# Altium schematic symbol library OMD.SCHLIB: 82 symbols
Pins are listed as number, name and electrical type; pins without a type are passive.

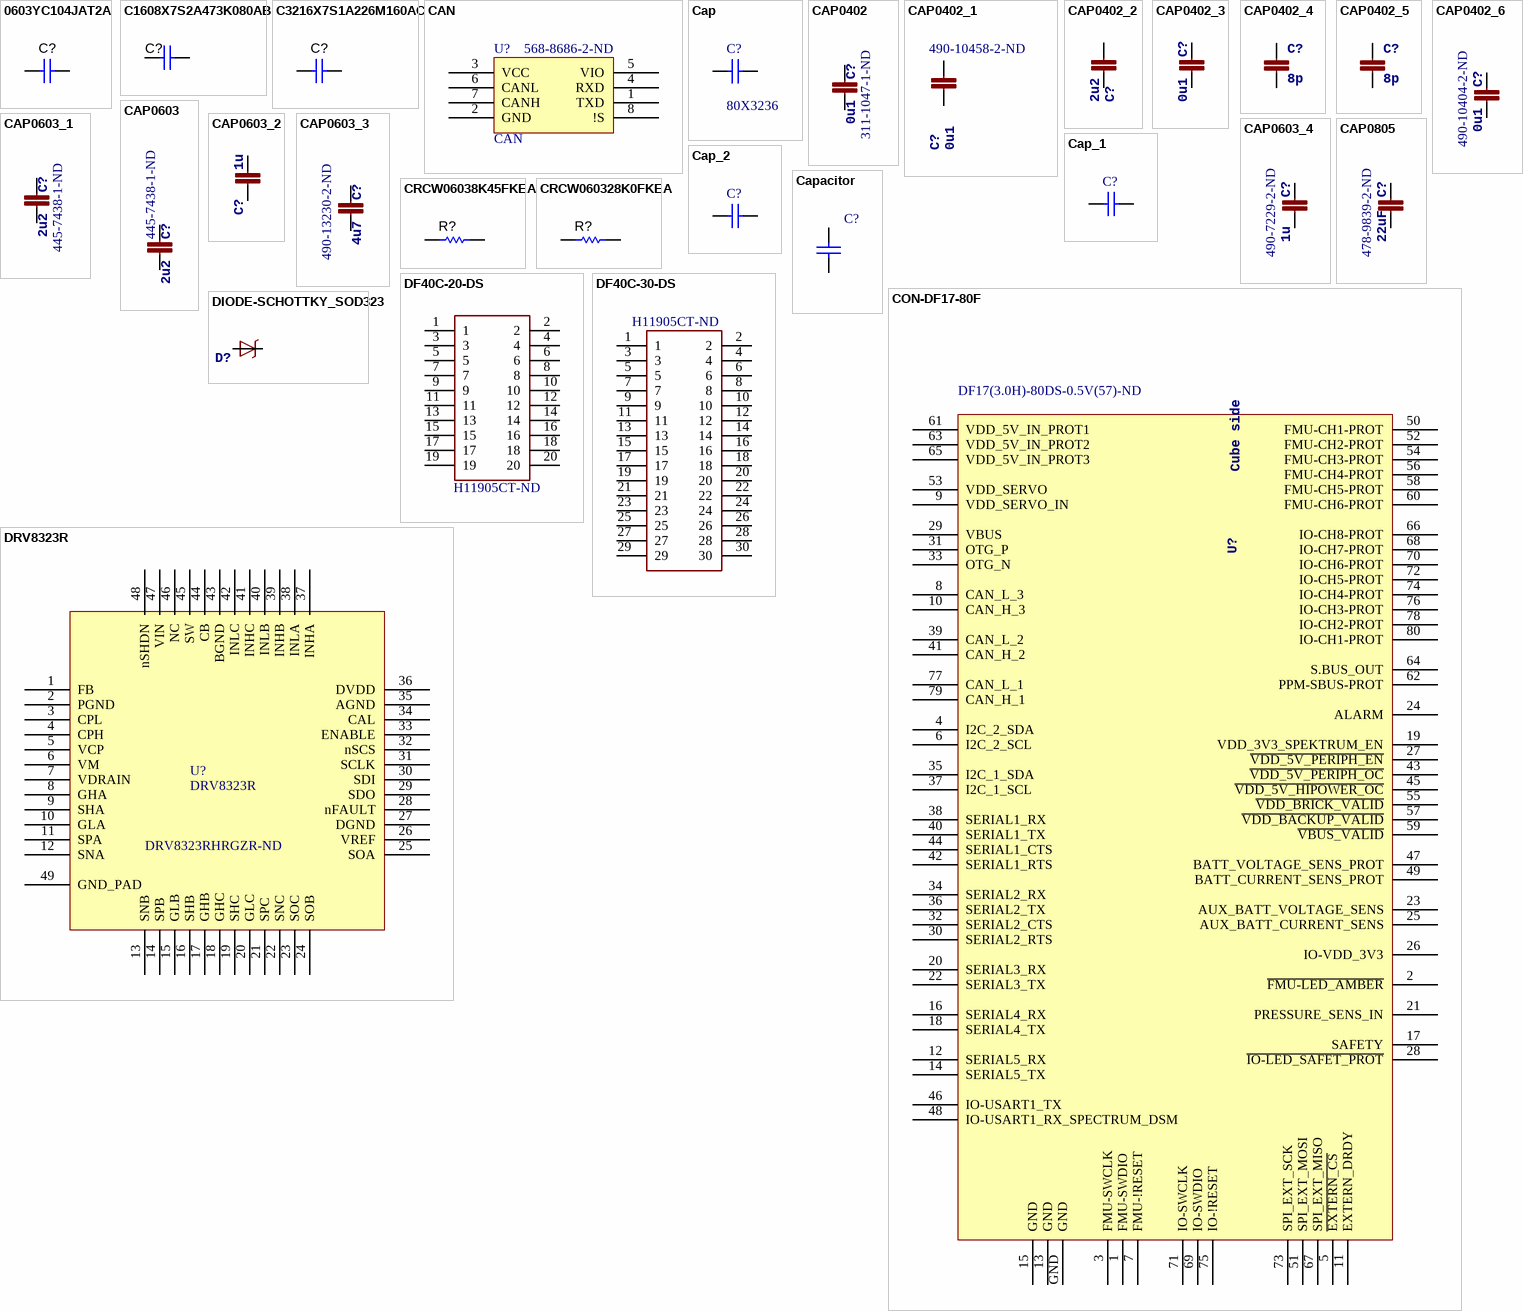
[diagram p0: symbols 0603YC104JAT2A to DRV8323R]

## 0603YC104JAT2A
designator C?
CAP, CERM, 0.1 µF, 16 V, +/- 5%, X7R, 0603; Supplier 1: Digi-Key; Supplier Part Number 1: 478-3726-1-ND
signal-integrity model Cap
simulation model Cap
footprint 0603
footprint 0603M
footprint 0603L
footprint 0603_HV
footprint 0603S
footprint 0603-CAP
pins: 1, 2

## C1608X7S2A473K080AB
designator C?
CAP, CERM, 0.047 µF, 100 V, +/- 10%, X7S, 0603; Supplier 1: Digi-Key; Supplier Part Number 1: 445-6032-1-ND
signal-integrity model Cap
simulation model Cap
footprint 0603
footprint 0603M
footprint 0603L
footprint 0603_HV
footprint 0603S
footprint 0603-CAP
pins: 1, 2

## C3216X7S1A226M160AC
designator C?
CAP, CERM, 22 µF, 10 V, +/- 20%, X7S, 1206; Supplier 1: Digi-Key; Supplier Part Number 1: 445-8035-1-ND
signal-integrity model Cap
simulation model Cap
footprint 1206_180
footprint 1206_180M
footprint 1206_180L (1206_180)
pins: 1, 2

## CAN
designator U?  Supplier Part Number 1: 568-8686-2-ND
Supplier 1: Digi-Key
footprint SON65P300X100_HS-9N (SON, 8-Leads, Body 3.00x3.00mm, Pitch 0.65mm, Thermal Pad 2.40x1.59mm, IPC Medium Density)
pins: 1 TXD, 2 GND, 3 VCC, 4 RXD, 5 VIO, 6 CANL, 7 CANH, 8 !S

## Cap
designator C?  Supplier Part Number 1: 80X3236  (hidden comment: Cap)
Capacitor; Supplier 1: Newark
simulation model CAP (Capacitor)
signal-integrity model Cap
footprint CAPC5750L (Chip Capacitor, Body 5.7x5.0mm, IPC High Density)
pins: 1, 2

## CAP0402
designator C?, comment 0u1  Supplier Part Number 1: 311-1047-1-ND
CAP CER 0.1UF 16V Y5V 0402; Supplier 1: Digi-Key
footprint 0402-CAP
pins: P$1 1, P$2 2

## CAP0402_1
designator C?, comment 0u1  Supplier Part Number 1: 490-10458-2-ND
CAP CER 0.1UF 16V Y5V 0402; Supplier 1: Digi-Key
footprint 0402-CAP
pins: P$1 1, P$2 2

## CAP0402_2
designator C?, comment 2u2
CAP CER 2u2uF 6V Y5V 0201; Supplier 1: Digi-Key; Supplier Part Number 1: 490-13224-1-ND
footprint 0402-CAP
footprint 0201-cap
pins: 1, 2

## CAP0402_3
designator C?, comment 0u1
CAP CER 0.1UF 6V Y5V 0201; Supplier 1: Digi-Key; Supplier Part Number 1: 490-10404-2-ND
footprint 0402-CAP
footprint 0201-cap
pins: 1, 2

## CAP0402_4
designator C?, comment 8p
CAP CER 8PF 50V NP0 0201; Supplier 1: Digi-Key; Supplier Part Number 1: 490-13331-1-ND
footprint 0402-CAP
footprint 0201-cap
pins: 1, 2

## CAP0402_5
designator C?, comment 8p
CAP CER 8PF 50V NP0 0201; Supplier 1: Digi-Key; Supplier Part Number 1: 490-13331-1-ND
footprint 0402-CAP
footprint 0201-cap
pins: 1, 2

## CAP0402_6
designator C?, comment 0u1  Supplier Part Number 1: 490-10404-2-ND
CAP CER 0.1UF 16V Y5V 0402; Supplier 1: Digi-Key
footprint 0402-CAP
footprint 0201-cap
pins: 1, 2

## CAP0603
designator C?, comment 2u2  Supplier Part Number 1: 445-7438-1-ND
CAP CER 2.2UF 16V 10% X6S 0603; Supplier 1: Digi-Key
footprint 0603-CAP
pins: 1, 2

## CAP0603_1
designator C?, comment 2u2  Supplier Part Number 1: 445-7438-1-ND
CAP CER 2.2UF 16V 10% X6S 0603; Supplier 1: Digi-Key
footprint 0603-CAP
pins: 1, 2

## CAP0603_2
designator C?, comment 1u
CAP CER 1UF 16V Y5V 0603; Supplier 1: Digi-Key; Supplier Part Number 1: 490-14464-2-ND
footprint 0603-CAP
footprint 0805-CAP
pins: 1, 2

## CAP0603_3
designator C?, comment 4u7  Supplier Part Number 1: 490-13230-2-ND
CAP CER 4.7UF 6.3V X5R 0201; Supplier 1: Digi-Key
footprint 0603-CAP
footprint 0201-cap
pins: 1, 2

## CAP0603_4
designator C?, comment 1u  Supplier Part Number 1: 490-7229-2-ND
CAP CER 1UF 6.3V X5R 0201; Supplier 1: Digi-Key
footprint 0603-CAP
footprint 0201-cap
pins: 1, 2

## CAP0805
designator C?, comment 22uF  Supplier Part Number 1: 478-9839-2-ND
CAP CER 22UF 6.3V X5R 0402; Supplier 1: Digi-Key
footprint 0805-CAP
footprint 0201-cap
pins: 1, 2

## Cap_1
designator C?, comment CAP CER 10000PF 50V X7R 0402  (value not drawn)
Supplier 1: Digi-Key; Supplier Part Number 1: 445-6893-1-ND
simulation model CAP (Capacitor)
signal-integrity model Cap
footprint CAPC1005L (Chip Capacitor, Body 1.0x0.5mm, IPC High Density)
pins: 1, 2

## Cap_2
designator C?, comment Cap  (value not drawn)
CAP CER 1UF 6.3V X5R 0402; Supplier 1: Digi-Key; Supplier Part Number 1: 587-3766-1-ND
simulation model CAP (Capacitor)
signal-integrity model Cap
footprint CAPC1005L (Chip Capacitor, Body 1.0x0.5mm, IPC High Density)
pins: 1, 2

## Capacitor
designator C?, comment GRM21BR60G107ME15L  (value not drawn)
Supplier 1: Digi-Key; Supplier Part Number 1: 490-10510-1-ND
footprint C0402
footprint C0603 (0603-CAP)
footprint C0805
footprint C1206
footprint C1812
footprint C1210
pins: 1, 2

## CON-DF17-80F
designator U?, comment Cube side  Supplier Part Number 1: DF17(3.0H)-80DS-0.5V(57)-ND
CONN RECEPT 80POS .5MM SMD W/FIT; Supplier 1: Digi-Key
footprint CON-DF17-80F
pins: 1 FMU-SWDIO, 2 ~{FMU-LED_AMBER}, 3 FMU-SWCLK, 4 I2C_2_SDA, 5 ~{EXTERN_CS}, 6 I2C_2_SCL, 7 FMU-!RESET, 8 CAN_L_3, 9 VDD_SERVO_IN, 10 CAN_H_3, 11 EXTERN_DRDY, 12 SERIAL5_RX, 13 GND, 14 SERIAL5_TX, 15 GND, 16 SERIAL4_RX, 17 SAFETY, 18 SERIAL4_TX, 19 VDD_3V3_SPEKTRUM_EN, 20 SERIAL3_RX, 21 PRESSURE_SENS_IN, 22 SERIAL3_TX, 23 AUX_BATT_VOLTAGE_SENS, 24 ALARM, 25 AUX_BATT_CURRENT_SENS, 26 IO-VDD_3V3, 27 ~{VDD_5V_PERIPH_EN}, 28 ~{IO-LED_SAFET_PROT}, 29 VBUS, 30 SERIAL2_RTS, 31 OTG_P, 32 SERIAL2_CTS, 33 OTG_N, 34 SERIAL2_RX, 35 I2C_1_SDA, 36 SERIAL2_TX, 37 I2C_1_SCL, 38 SERIAL1_RX, 39 CAN_L_2, 40 SERIAL1_TX, 41 CAN_H_2, 42 SERIAL1_RTS, 43 ~{VDD_5V_PERIPH_OC}, 44 SERIAL1_CTS, 45 ~{VDD_5V_HIPOWER_OC}, 46 IO-USART1_TX, 47 BATT_VOLTAGE_SENS_PROT, 48 IO-USART1_RX_SPECTRUM_DSM, 49 BATT_CURRENT_SENS_PROT, 50 FMU-CH1-PROT, 51 SPI_EXT_MOSI, 52 FMU-CH2-PROT, 53 VDD_SERVO, 54 FMU-CH3-PROT, 55 ~{VDD_BRICK_VALID}, 56 FMU-CH4-PROT, 57 ~{VDD_BACKUP_VALID}, 58 FMU-CH5-PROT, 59 ~{VBUS_VALID}, 60 FMU-CH6-PROT, 61 VDD_5V_IN_PROT1, 62 PPM-SBUS-PROT, 63 VDD_5V_IN_PROT2, 64 S.BUS_OUT, 65 VDD_5V_IN_PROT3, 66 IO-CH8-PROT, 67 SPI_EXT_MISO, 68 IO-CH7-PROT, 69 IO-SWDIO, 70 IO-CH6-PROT, 71 IO-SWCLK, 72 IO-CH5-PROT, 73 SPI_EXT_SCK, 74 IO-CH4-PROT, 75 IO-!RESET, 76 IO-CH3-PROT, 77 CAN_L_1, 78 IO-CH2-PROT, 79 CAN_H_1, 80 IO-CH1-PROT, GND

## CRCW06038K45FKEA
designator R?
RES, 8.45 k, 1%, 0.1 W, 0603; Supplier 1: Digi-Key; Supplier Part Number 1: 541-8.45KHCT-ND
signal-integrity model Resistor
simulation model Resistor
footprint 0603
footprint 0603M
footprint 0603L (0603 from SM-752 data)
footprint 0603_HV
footprint 0603S
pins: 1, 2

## CRCW060328K0FKEA
designator R?
RES, 28.0 k, 1%, 0.1 W, 0603; Supplier 1: Digi-Key; Supplier Part Number 1: 541-28.0KHCT-ND
signal-integrity model Resistor
simulation model Resistor
footprint 0603
footprint 0603M
footprint 0603L (0603 from SM-752 data)
footprint 0603_HV
footprint 0603S
pins: 1, 2

## DF40C-20-DS
designator U$?  Supplier Part Number 1: H11905CT-ND  (hidden comment: DF40C-20-DS)
CONN RCPT 20POS 0.4MM SMD GOLD; 3DR_PARTNO: ECM0517; PARTNO: DF40C(2.0)-20DS-0.4V(51); Supplier 1: Digi-Key
footprint DF-40C-20DS
pins: 1, 2, 3, 4, 5, 6, 7, 8, 9, 10, 11, 12, 13, 14, 15, 16, 17, 18, 19, 20

## DF40C-30-DS
designator U$?  Supplier Part Number 1: H11905CT-ND  (hidden comment: DF40C-30-DS)
CONN RCPT 30POS 0.4MM SMD GOLD; Supplier 1: Digi-Key
footprint DF-40C-30DS
pins: 1, 2, 3, 4, 5, 6, 7, 8, 9, 10, 11, 12, 13, 14, 15, 16, 17, 18, 19, 20, 21, 22, 23, 24, 25, 26, 27, 28, 29, 30

## DIODE-SCHOTTKY_SOD323
designator D?, comment Schottky barrier diode  (value not drawn)
DIODE SCHOTTKY 30V 0.03A SOD323; Supplier 1: Digi-Key; Supplier Part Number 1: RB751V40T1GOSCT-ND
footprint SOD323
pins: A, C

## DRV8323R
designator U?  Supplier Part Number 1: DRV8323RHRGZR-ND
Supplier 1: Digi-Key
footprint PQFP-G48 (TSQFP, 48-Leads, Body 7.00x7.00mm, Pitch 0.50mm, Thermal Pad 5.17x5.17mm, IPC High Density)
pins: 1 FB, 2 PGND, 3 CPL, 4 CPH, 5 VCP, 6 VM, 7 VDRAIN, 8 GHA, 9 SHA, 10 GLA, 11 SPA, 12 SNA, 13 SNB, 14 SPB, 15 GLB, 16 SHB, 17 GHB, 18 GHC, 19 SHC, 20 GLC, 21 SPC, 22 SNC, 23 SOC, 24 SOB, 25 SOA, 26 VREF, 27 DGND, 28 nFAULT, 29 SDO, 30 SDI, 31 SCLK, 32 nSCS, 33 ENABLE, 34 CAL, 35 AGND, 36 DVDD, 37 INHA, 38 INLA, 39 INHB, 40 INLB, 41 INHC, 42 INLC, 43 BGND, 44 CB, 45 SW, 46 NC, 47 VIN, 48 nSHDN, 49 GND_PAD

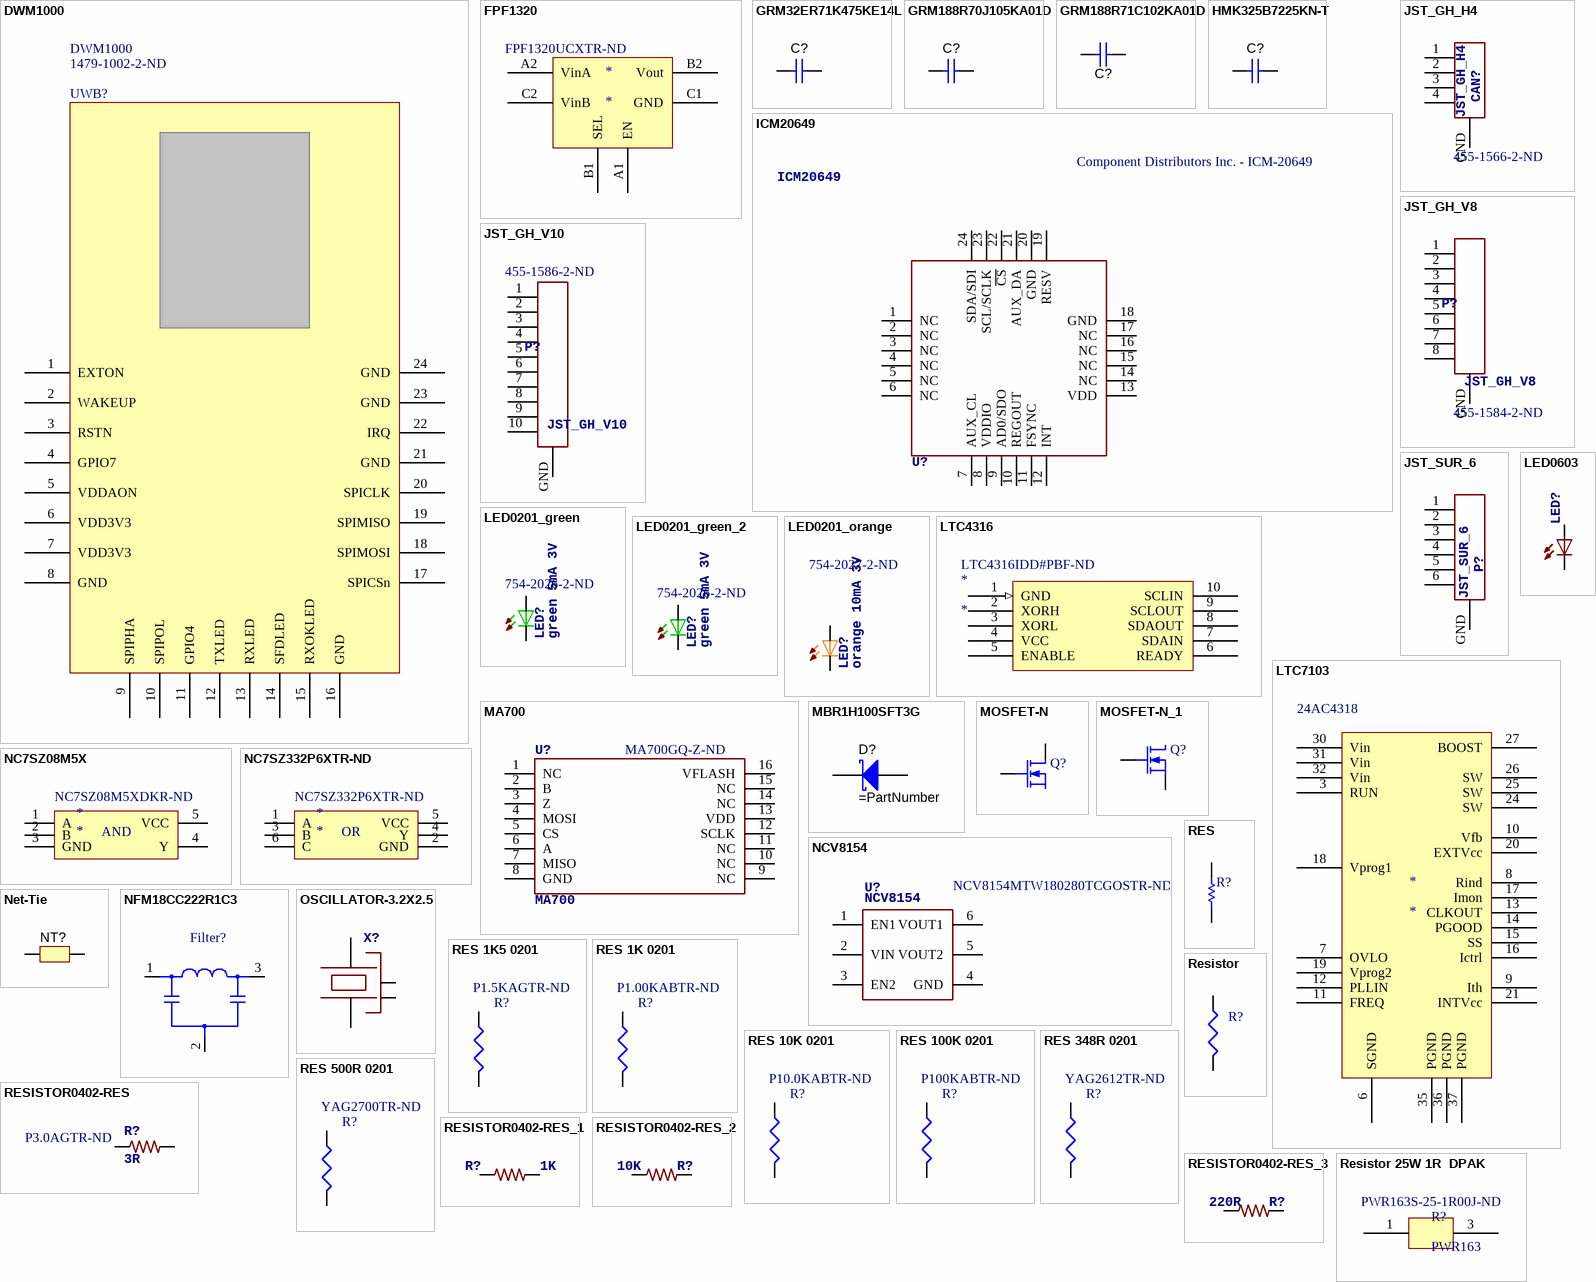
[diagram p1: symbols DWM1000 to Resistor 25W 1R  DPAK]

## DWM1000
designator UWB?  Supplier Part Number 1: 1479-1002-2-ND
Supplier 1: Digi-Key
footprint DWM1000
pins: 1 EXTON, 2 WAKEUP, 3 RSTN, 4 GPIO7, 5 VDDAON, 6 VDD3V3, 7 VDD3V3, 8 GND, 9 SPIPHA, 10 SPIPOL, 11 GPIO4, 12 TXLED, 13 RXLED, 14 SFDLED, 15 RXOKLED, 16 GND, 17 SPICSn, 18 SPIMOSI, 19 SPIMISO, 20 SPICLK, 21 GND, 22 IRQ, 23 GND, 24 GND

## FPF1320
designator *  Supplier Part Number 1: FPF1320UCXTR-ND
Supplier 1: Digi-Key
footprint FPF1320 (BGA, 6-Leads, Body 0.96x1.46mmx0.63mm, Pitch 0.50mm)
pins: A1 EN, A2 VinA, B1 SEL, B2 Vout, C1 GND, C2 VinB

## GRM32ER71K475KE14L
designator C?
CAP, CERM, 4.7 µF, 80 V, +/- 10%, X7R, 1210; Supplier 1: Digi-Key; Supplier Part Number 1: 490-9972-1-ND
signal-integrity model Cap
simulation model Cap
footprint 1210_270
footprint 1210_270M
footprint 1210_270L (1210)
pins: 1, 2

## GRM188R70J105KA01D
designator C?
CAP, CERM, 1 µF, 6.3 V, +/- 10%, X7R, 0603; Supplier 1: Digi-Key; Supplier Part Number 1: 490-3898-1-ND
signal-integrity model Cap
simulation model Cap
footprint 0603
footprint 0603M
footprint 0603L
footprint 0603_HV
footprint 0603S
footprint 0603-CAP
pins: 1, 2

## GRM188R71C102KA01D
designator C?
CAP, CERM, 1000pF, 16V, +/-10%, X7R, 0603; Supplier 1: Digi-Key; Supplier Part Number 1: GRM188R71C102KA01D-ND
signal-integrity model Cap
simulation model Cap
footprint 0603
footprint 0603M
footprint 0603L (0603 from SM-752 data)
footprint 0603_HV
footprint 0603S
footprint 0603-CAP
pins: 1, 2

## HMK325B7225KN-T
designator C?
CAP, CERM, 2.2 µF, 100 V, +/- 10%, X7R, 1210; Supplier 1: Digi-Key; Supplier Part Number 1: 587-1778-1-ND
signal-integrity model Cap
simulation model Cap
footprint 1210
footprint 1210M
footprint 1210L (1210 from SM-752 data)
pins: 1, 2

## ICM20649
designator U?  Supplier Part Number 1: Component Distributors Inc. - ICM-20649
Supplier 1: Octopart
footprint ICM20649
pins: 1 NC, 2 NC, 3 NC, 4 NC, 5 NC, 6 NC, 7 AUX_CL, 8 VDDIO, 9 AD0/SDO, 10 REGOUT, 11 FSYNC, 12 INT, 13 VDD, 14 NC, 15 NC, 16 NC, 17 NC, 18 GND, 19 RESV, 20 GND, 21 AUX_DA, 22 ~{CS}, 23 SCL/SCLK, 24 SDA/SDI

## JST_GH_H4
designator CAN?  Supplier Part Number 1: 455-1566-2-ND
SM04B-GHS-TB; Supplier 1: Digi-Key
footprint JST_GH_H4
pins: 1, 2, 3, 4, GND

## JST_GH_V8
designator P?  Supplier Part Number 1: 455-1584-2-ND
BM08B-GHS-TBT; Supplier 1: Digi-Key
footprint JST_GH_V8
pins: 1, 2, 3, 4, 5, 6, 7, 8, GND

## JST_GH_V10
designator P?  Supplier Part Number 1: 455-1586-2-ND
BM10B-GHS-TBT; Supplier 1: Digi-Key
footprint JST_GH_V10
pins: 1, 2, 3, 4, 5, 6, 7, 8, 9, 10, GND

## JST_SUR_6
designator P?
Connector, Header, 6Pos, .8mm IDC, R/A, SMD, Tin; Supplier 1: Digi-Key; Supplier Part Number 1: SM06B-SURS-TF(LF)(SN)-ND
footprint JST_SUR_H6
pins: 1, 2, 3, 4, 5, 6, GND

## LED0201_green
designator LED?, comment green 5mA 3V  Supplier Part Number 1: 754-2026-2-ND
Green 527nm LED Indication - Discrete 3V 2-SMD, 0201; Supplier 1: Digi-Key
footprint 0201-LED
pins: A, C

## LED0201_green_2
designator LED?, comment green 5mA 3V  Supplier Part Number 1: 754-2026-2-ND
Green 527nm LED Indication - Discrete 3V 2-SMD, 0201; Supplier 1: Digi-Key
footprint 0201-LED
pins: A, C

## LED0201_orange
designator LED?, comment orange 10mA 3V  Supplier Part Number 1: 754-2027-2-ND
Orange 605nm LED Indication - Discrete 2.01V 2-SMD, 0201; Supplier 1: Digi-Key
footprint 0201-LED
pins: A, C

## LED0603
designator LED?, comment AMBER  (value not drawn)
LED 1.6X0.8 DOME ORN CLEAR SMD; Supplier 1: Digi-Key; Supplier Part Number 1: 754-1802-1-ND
footprint 0603-LED
pins: A, C

## LTC4316
designator *  Supplier Part Number 1: LTC4316IDD#PBF-ND
Supplier 1: Digi-Key
footprint LTC4316
pins: 1 GND (in), 2 XORH, 3 XORL, 4 VCC, 5 ENABLE, 6 READY, 7 SDAIN, 8 SDAOUT, 9 SCLOUT, 10 SCLIN

## LTC7103
designator *  Supplier Part Number 1: 24AC4318
Supplier 1: Newark
footprint LTC7103
pins: 3 RUN, 6 SGND, 7 OVLO, 8 Rind, 9 Ith, 10 Vfb, 11 FREQ, 12 PLLIN, 13 CLKOUT, 14 PGOOD, 15 SS, 16 Ictrl, 17 Imon, 18 Vprog1, 19 Vprog2, 20 EXTVcc, 21 INTVcc, 24 SW, 25 SW, 26 SW, 27 BOOST, 30 Vin, 31 Vin, 32 Vin, 35 PGND, 36 PGND, 37 PGND

## MA700
designator U?  Supplier Part Number 1: MA700GQ-Z-ND
Supplier 1: Digi-Key
footprint QFN16
pins: 1 NC, 2 B (power), 3 Z, 4 MOSI, 5 CS, 6 A, 7 MISO, 8 GND, 9 NC, 10 NC, 11 NC, 12 SCLK, 13 VDD, 14 NC, 15 NC, 16 VFLASH

## MBR1H100SFT3G
designator D?
Diode, Schottky, 100 V, 1 A, SOD-123FL; Supplier 1: Digi-Key; Supplier Part Number 1: MBR1H100SFT3GOSCT-ND
signal-integrity model Diode
footprint SOD-123FL (Copied from SOD-123)
pins: 1 K, 2 A

## MOSFET-N
designator Q?  (value not drawn)
N-Channel MOSFET; Supplier 1: Digi-Key; Supplier Part Number 1: 296-37194-1-ND
simulation model NMOS (MOSFET-N)
footprint Q5B (TI Q5B, 8-Leads, Body 5.1x6.1mm (max), Pitch 1.27mm, IPC Medium Density)
pins: D, G, S

## MOSFET-N_1
designator Q?, comment MOSFET-N  (value not drawn)
N-Channel MOSFET; Supplier 1: Digi-Key; Supplier Part Number 1: 296-37194-1-ND
simulation model NMOS (MOSFET-N)
footprint Q5B (TI Q5B, 8-Leads, Body 5.1x6.1mm (max), Pitch 1.27mm, IPC Medium Density)
pins: D, G, S

## NC7SZ08M5X
designator *  Supplier Part Number 1: NC7SZ08M5XDKR-ND
Supplier 1: Digi-Key
footprint SOT-23-5 (SOT23, 3-Leads, Body 2.9x1.3mm, Pitch 0.95mm, Lead Span 2.5mm, IPC Medium Density)
pins: 1 A, 2 B, 3 GND, 4 Y, 5 VCC
text: AND

## NC7SZ332P6XTR-ND
designator *  Supplier Part Number 1: NC7SZ332P6XTR-ND
Supplier 1: Digi-Key
footprint SOT-23-5 (SOT23, 3-Leads, Body 2.9x1.3mm, Pitch 0.95mm, Lead Span 2.5mm, IPC Medium Density)
pins: 1 A, 2 GND, 3 B, 4 Y, 5 VCC, 6 C
text: OR

## NCV8154
designator U?  Supplier Part Number 1: NCV8154MTW180280TCGOSTR-ND
IC REG LDO 1.8v and 2.8v; Supplier 1: Digi-Key
footprint NCV8154 (ldo 1.8v 2.8v)
pins: 1 EN1, 2 VIN, 3 EN2, 4 GND, 5 VOUT2, 6 VOUT1

## Net-Tie
designator NT?  (value not drawn)  (net tie, no BOM)
Single point connection between nets.
footprint Net-Tie_10mil (10mil net tie, no solder mask opening, no solder paste)
footprint NetTie_1206 (1206 pads tied by 10mil copper trace which can be cut.  Part can be placed on pads.)
footprint Net-Tie_0805_HV
footprint NetTie_1206_NoOverlay (1206 pads tied by 10mil copper trace which can be cut.  Part can be placed on pads.)
footprint Net-Tie_0805_HV_NoOverlay (0805_HV pads tied by 10mil copper trace which can be cut.  An 0805 part can be placed on pads.)
footprint Net-Tie_10milWide_30milLong
footprint Net-Tie_20milWide_60milLong
footprint NetTie_0603
footprint NetTie_0402
footprint Net-Tie_50milWide_30milLong
pins: 1, 2

## NFM18CC222R1C3
designator Filter?, comment Filter  (value not drawn)
EMIFIL (Capacitor type) Single Circuit Type for Signal Lines; Supplier 1: Digi-Key; Supplier Part Number 1: 490-6972-1-ND
footprint NFM18CC (Chip Capacitor, 3-Leads, Body 1.6x0.8mm)
pins: 1 IN, 2 GND, 3 OUT

## OSCILLATOR-3.2X2.5
designator X?, comment Crystal Oscillator in SMD 1.6 x 1.2  (value not drawn)
CRYSTAL 24MHZ 8PF SMD; Supplier 1: Digi-Key; Supplier Part Number 1: 887-1846-2-ND
footprint OSCILLATOR-3.2X2.5
footprint OSCILLATOR-1.6x1.2
pins: 1, 2 NC_2 (oe), 3, 4 NC_4 (oe)

## RES
designator R?  (value not drawn)
RES SMD 18K OHM 1% 1/8W 0805; Supplier 1: Digi-Key; Supplier Part Number 1: 311-18.0KCRCT-ND
footprint R0805
pins: 1, 2

## RES 1K5 0201
designator R?, comment Supplier Part Number 1: P1.5KAGTR-ND  (hidden comment: RES SMD 1.5K OHM 5% 1/20W 0201)
±5% 0.05W, 1/20W Chip Resistor 0201 (0603 Metric) Thick Film; Supplier 1: Digi-Key
footprint 0201-RES
pins: 1, 2

## RES 1K 0201
designator R?, comment Supplier Part Number 1: P1.00KABTR-ND  (hidden comment: RES SMD 1K OHM 1% 1/20W 0201)
±1% 0.05W, 1/20W Chip Resistor 0201 (0603 Metric) Thick Film; Supplier 1: Digi-Key
footprint 0201-RES
pins: 1, 2

## RES 10K 0201
designator R?, comment Supplier Part Number 1: P10.0KABTR-ND  (hidden comment: RES SMD 10K OHM 1% 1/20W 0201)
±1% 0.05W, 1/20W Chip Resistor 0201 (0603 Metric) Thick Film; Supplier 1: Digi-Key
footprint 0201-RES
pins: 1, 2

## RES 100K 0201
designator R?, comment Supplier Part Number 1: P100KABTR-ND  (hidden comment: RES SMD 100K OHM 1% 1/20W 0201)
±1% 0.05W, 1/20W Chip Resistor 0201 (0603 Metric) Thick Film; Supplier 1: Digi-Key
footprint 0201-RES
pins: 1, 2

## RES 348R 0201
designator R?, comment Supplier Part Number 1: YAG2612TR-ND  (hidden comment: RES SMD 348 OHM 1% 1/20W 0201)
±1% 0.05W, 1/20W Chip Resistor 0201 (0603 Metric) Moisture Resistant Thick Film; Supplier 1: Digi-Key
footprint 0201-RES
pins: 1, 2

## RES 500R 0201
designator R?, comment Supplier Part Number 1: YAG2700TR-ND  (hidden comment: RES SMD 499 OHM 1% 1/20W 0201)
±1% 0.05W, 1/20W Chip Resistor 0201 (0603 Metric) Moisture Resistant Thick Film; Supplier 1: Digi-Key
footprint 0201-RES
pins: 1, 2

## Resistor
designator R?, comment RES SMD 10K OHM 5% 1/16W 0402  (value not drawn)
Supplier 1: Digi-Key; Supplier Part Number 1: 311-10KJRTR-ND
footprint 0402-RES
footprint R0603
footprint R0805
pins: 1, 2

## RESISTOR0402-RES
designator R?, comment 3R  Supplier Part Number 1: P3.0AGTR-ND  (no BOM)
RES 3OHM 1/16W 1% 0201 SMD; Supplier 1: Digi-Key
footprint 0402-RES
footprint 0201-RES
pins: 1, 2

## RESISTOR0402-RES_1
designator R?, comment 1K
RES 1K OHM 1/16W 1% 0402; Supplier 1: Digi-Key; Supplier Part Number 1: 1276-3430-1-ND
footprint 0402-RES
pins: 1, 2

## RESISTOR0402-RES_2
designator R?, comment 10K
RES 10K OHM 1/16W 1% 0402 SMD; Supplier 1: Digi-Key; Supplier Part Number 1: 311-10.0KLRCT-ND
footprint 0402-RES
pins: 1, 2

## RESISTOR0402-RES_3
designator R?, comment 220R
RES 220 OHM 1/16W 1% 0402 SMD; Supplier 1: Digi-Key; Supplier Part Number 1: 311-220LRCT-ND
footprint 0402-RES
pins: 1, 2

## Resistor 25W 1R  DPAK
designator R?, comment PWR163  Supplier Part Number 1: PWR163S-25-1R00J-ND
The PWR163 Series is a DPAK style surface mount power resistor.; Supplier 1: Digi-Key
footprint PWR163 (TO, 3-Pads, Body 6.72x7.43mm (max), IPC Medium Density)
pins: 1, 3

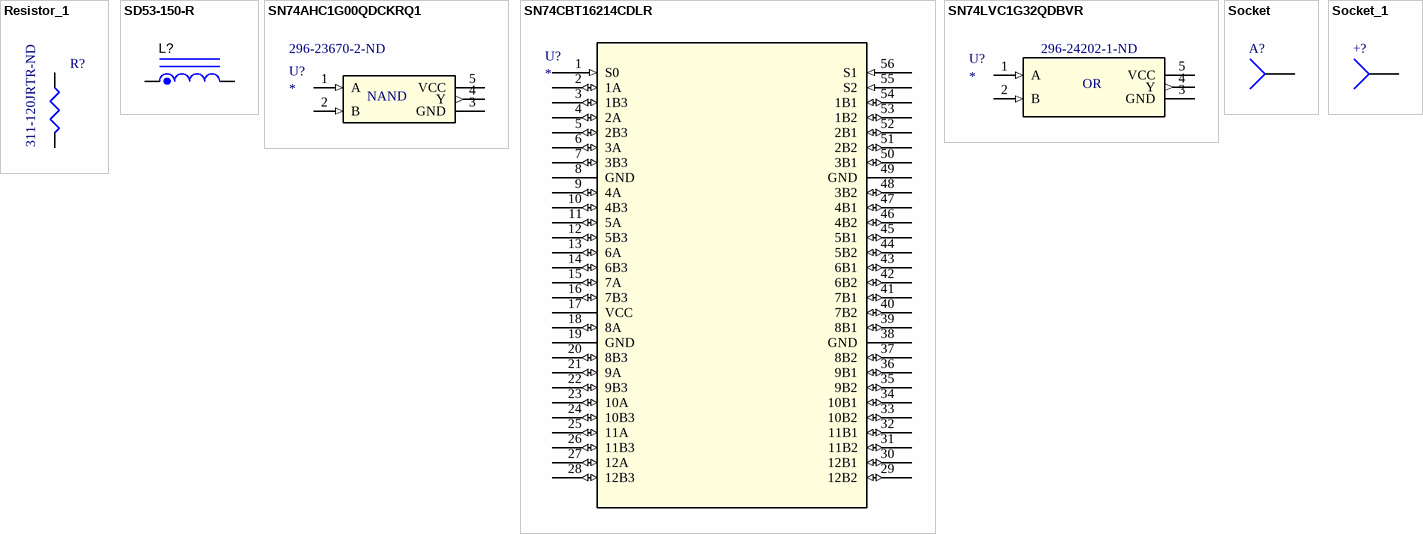
[diagram p2: symbols Resistor_1 to Socket_1]

## Resistor_1
designator R?, comment Supplier Part Number 1: 311-120JRTR-ND  (hidden comment: RES SMD 120 OHM 5% 1/16W 0402)
Supplier 1: Digi-Key
footprint R0402
footprint R0603
footprint R0805
pins: 1, 2

## SD53-150-R
designator L?
Inductor, Shielded Drum Core, Ferrite, 15 µH, 1.1 A, 0.122 ohm, SMD; Supplier 1: Digi-Key; Supplier Part Number 1: 513-1458-1-ND
signal-integrity model Inductor
simulation model Inductor
footprint SD53 (COOPER BUSSMAN)
pins: 1, 2

## SN74AHC1G00QDCKRQ1
designator U?  Supplier Part Number 1: 296-23670-2-ND
Imported; Manufacturer: Texas Instruments; Manufacturer_Part_Number: SN74LVC1G32QDBVRQ1; Built_By: EMA_UL_Team; C: Copyright (C) 2015 Accelerated Designs. All rights reserved; Vendor: Texas Instruments; RefDes: RefDes; Type: DEV; Value: Value; Supplier 1: Digi-Key
footprint DBV5-M
pins: 1 A (in), 2 B (in), 3 GND (power), 4 Y (out), 5 VCC (power)
text: NAND

## SN74CBT16214CDLR
designator U?
Imported; Manufacturer: Texas Instruments; Manufacturer_Part_Number: SN74CBT16214CDLR; Built_By: EMA_UL_Team; C: Copyright (C) 2015 Accelerated Designs. All rights reserved; Vendor: Texas Instruments; RefDes: RefDes; Type: DEV; Value: Value
footprint DL56
pins: 1 S0 (in), 2 1A (io), 3 1B3 (io), 4 2A (io), 5 2B3 (io), 6 3A (io), 7 3B3 (io), 8 GND (power), 9 4A (io), 10 4B3 (io), 11 5A (io), 12 5B3 (io), 13 6A (io), 14 6B3 (io), 15 7A (io), 16 7B3 (io), 17 VCC (power), 18 8A (io), 19 GND (power), 20 8B3 (io), 21 9A (io), 22 9B3 (io), 23 10A (io), 24 10B3 (io), 25 11A (io), 26 11B3 (io), 27 12A (io), 28 12B3 (io), 29 12B2 (io), 30 12B1 (io), 31 11B2 (io), 32 11B1 (io), 33 10B2 (io), 34 10B1 (io), 35 9B2 (io), 36 9B1 (io), 37 8B2 (io), 38 GND (power), 39 8B1 (io), 40 7B2 (io), 41 7B1 (io), 42 6B2 (io), 43 6B1 (io), 44 5B2 (io), 45 5B1 (io), 46 4B2 (io), 47 4B1 (io), 48 3B2 (io), 49 GND (power), 50 3B1 (io), 51 2B2 (io), 52 2B1 (io), 53 1B2 (io), 54 1B1 (io), 55 S2 (in), 56 S1 (in)

## SN74LVC1G32QDBVR
designator U?  Supplier Part Number 1: 296-24202-1-ND
Imported; Manufacturer: Texas Instruments; Manufacturer_Part_Number: SN74LVC1G32QDBVRQ1; Built_By: EMA_UL_Team; C: Copyright (C) 2015 Accelerated Designs. All rights reserved; Vendor: Texas Instruments; RefDes: RefDes; Type: DEV; Value: Value; Supplier 1: Digi-Key
footprint DBV5-M
pins: 1 A (in), 2 B (in), 3 GND (power), 4 Y (out), 5 VCC (power)
text: OR

## Socket
designator A?, comment Motor_pad  (value not drawn)
Socket
signal-integrity model Connector
footprint MOTOR_PLUG_F_3.5
pins: 1

## Socket_1
designator +?, comment BATT  (value not drawn)
Socket
footprint MOTOR_PLUG_F_3.5
pins: 1

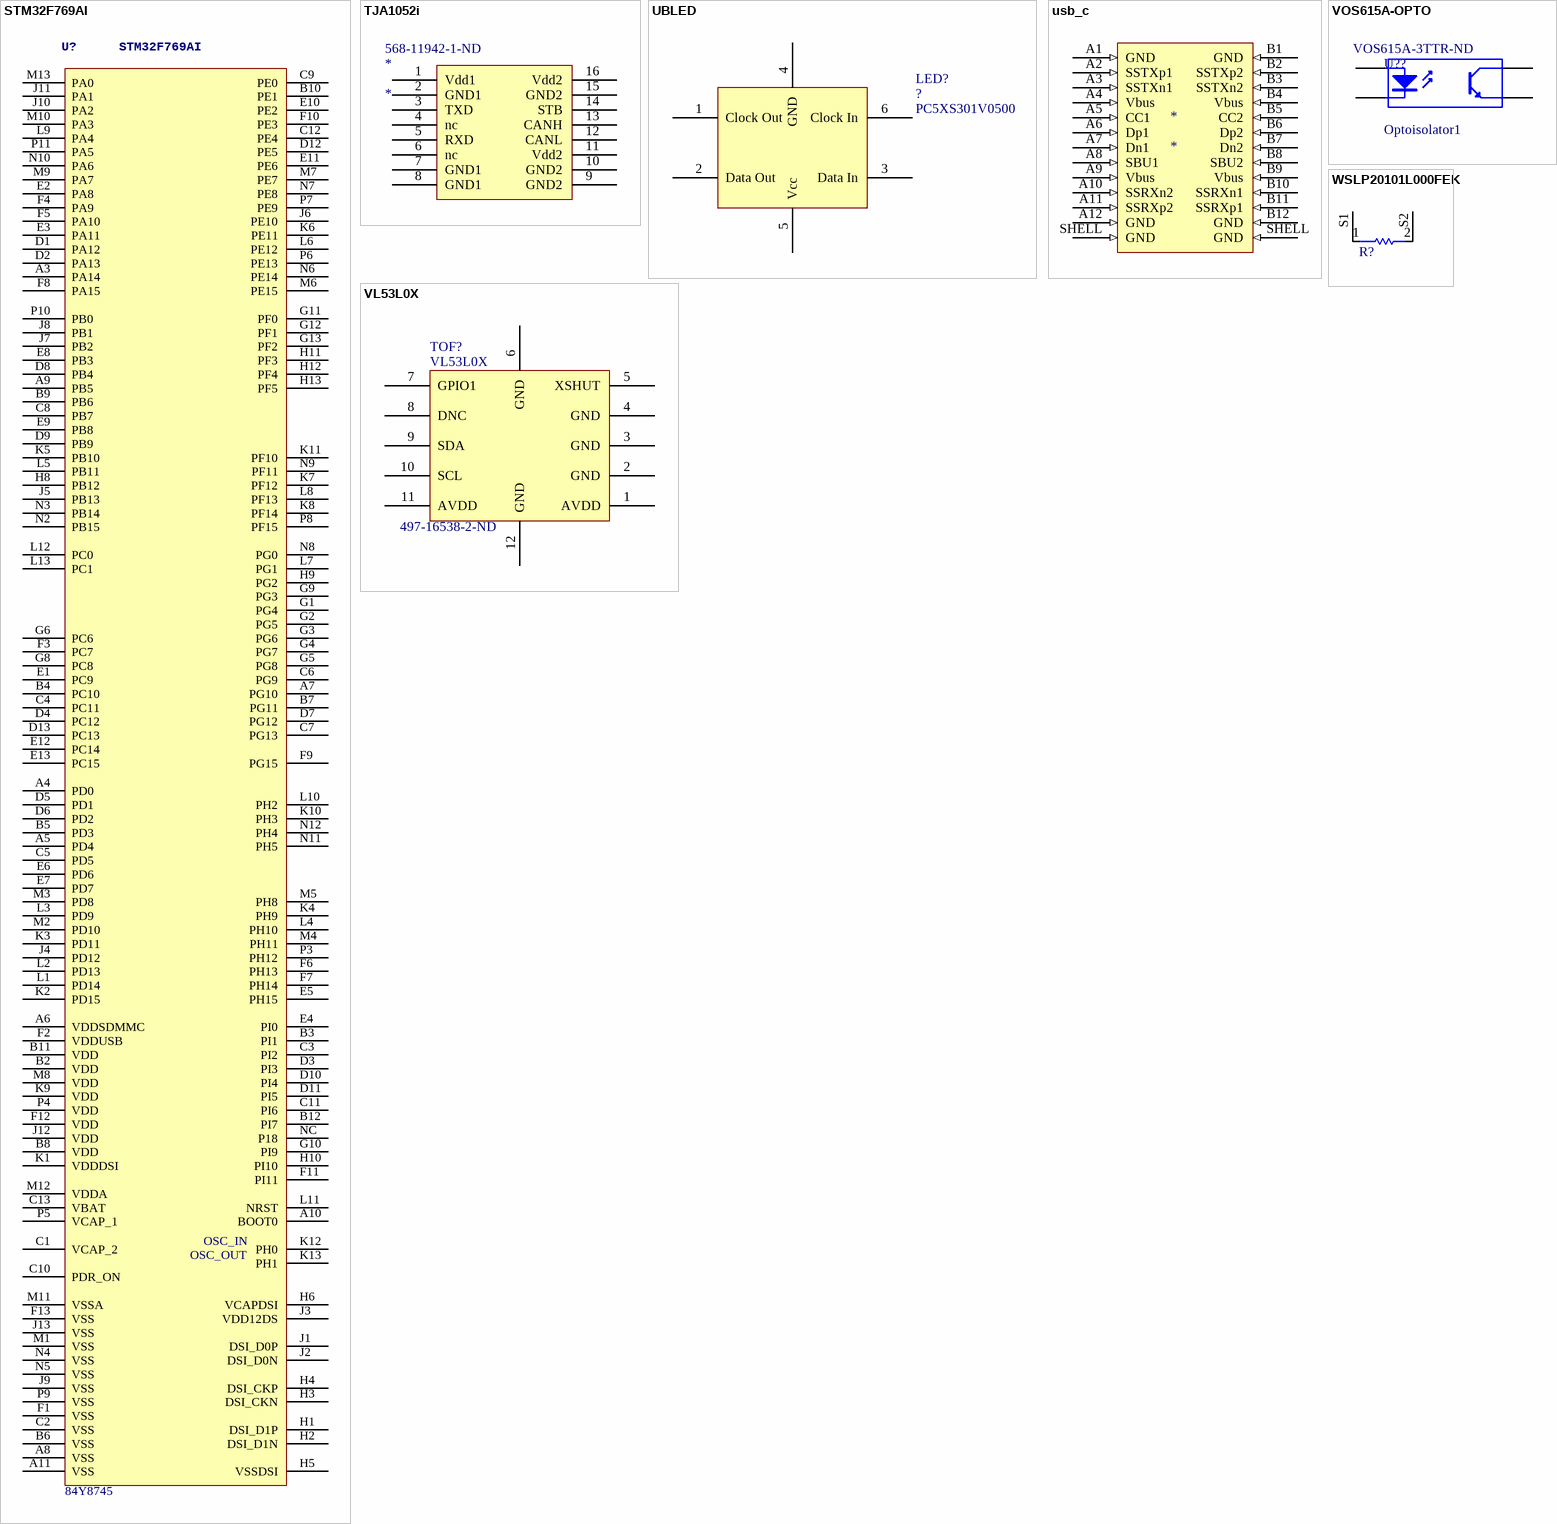
[diagram p3: symbols STM32F769AI to WSLP20101L000FEK]

## STM32F769AI
designator U?  Supplier Part Number 1: 84Y8745
STM32F7; Supplier 1: Newark
footprint WLCSP180 (WLCSP, 180-Leads, Body 5.54x6.09mmx0.58mm, Pitch 0.40mm)
pins: A3 PA14, A4 PD0, A5 PD4, A6 VDDSDMMC, A7 PG10, A8 VSS, A9 PB5, A10 BOOT0, A11 VSS, B2 VDD, B3 PI1, B4 PC10, B5 PD3, B6 VSS, B7 PG11, B8 VDD, B9 PB6, B10 PE1, B11 VDD, B12 PI7, C1 VCAP_2, C2 VSS, C3 PI2, C4 PC11, C5 PD5, C6 PG9, C7 PG13, C8 PB7, C9 PE0, C10 PDR_ON, C11 PI6, C12 PE4, C13 VBAT, D1 PA12, D2 PA13, D3 PI3, D4 PC12, D5 PD1, D6 PD2, D7 PG12, D8 PB4, D9 PB9, D10 PI4, D11 PI5, D12 PE5, D13 PC13, E1 PC9, E2 PA8, E3 PA11, E4 PI0, E5 PH15, E6 PD6, E7 PD7, E8 PB3, E9 PB8, E10 PE2, E11 PE6, E12 PC14, E13 PC15, F1 VSS, F2 VDDUSB, F3 PC7, F4 PA9, F5 PA10, F6 PH13, F7 PH14, F8 PA15, F9 PG15, F10 PE3, F11 PI11, F12 VDD, F13 VSS, G1 PG4, G2 PG5, G3 PG6, G4 PG7, G5 PG8, G6 PC6, G8 PC8, G9 PG3, G10 PI9, G11 PF0, G12 PF1, G13 PF2, H1 DSI_D1P, H2 DSI_D1N, H3 DSI_CKN, H4 DSI_CKP, H5 VSSDSI, H6 VCAPDSI, H8 PB12, H9 PG2, H10 PI10, H11 PF3, H12 PF4, H13 PF5, J1 DSI_D0P, J2 DSI_D0N, J3 VDD12DS, J4 PD12, J5 PB13, J6 PE10, J7 PB2, J8 PB1, J9 VSS, J10 PA2, J11 PA1, J12 VDD, J13 VSS, K1 VDDDSI, K2 PD15, K3 PD11, K4 PH9, K5 PB10, K6 PE11, K7 PF12, K8 PF14, K9 VDD, K10 PH3, K11 PF10, K12 PH0, K13 PH1, L1 PD14, L2 PD13, L3 PD9, L4 PH10, L5 PB11, L6 PE12, L7 PG1, L8 PF13, L9 PA4, L10 PH2, L11 NRST, L12 PC0, L13 PC1, M1 VSS, M2 PD10, M3 PD8, M4 PH11, M5 PH8, M6 PE15, M7 PE7, M8 VDD, M9 PA7, M10 PA3, M11 VSSA, M12 VDDA, M13 PA0, N2 PB15, N3 PB14, N4 VSS, N5 VSS, N6 PE14, N7 PE8, N8 PG0, N9 PF11, N10 PA6, N11 PH5, N12 PH4, NC P18, P3 PH12, P4 VDD, P5 VCAP_1, P6 PE13, P7 PE9, P8 PF15, P9 VSS, P10 PB0, P11 PA5
text: OSC_IN; OSC_OUT

## TJA1052i
designator *  Supplier Part Number 1: 568-11942-1-ND
Supplier 1: Digi-Key
footprint TJA1052i (SOP, 16-Leads, Body 10.30x7.50mm, Pitch 1.27mm, IPC Medium Density)
pins: 1 Vdd1, 2 GND1, 3 TXD, 4 nc, 5 RXD, 6 nc, 7 GND1, 8 GND1, 9 GND2, 10 GND2, 11 Vdd2, 12 CANL, 13 CANH, 14 STB, 15 GND2, 16 Vdd2

## UBLED
designator LED?, comment ?  Supplier Part Number 1: PC5XS301V0500
Supplier 1: jeff_chang@ubleds.com.tw
footprint UBLED
pins: 1 Clock Out, 2 Data Out, 3 Data In, 4 GND, 5 Vcc, 6 Clock In

## usb_c
designator *
footprint USB3.1 (CONNECTOR)
pins: A1 GND (in), A2 SSTXp1 (in), A3 SSTXn1 (in), A4 Vbus (in), A5 CC1 (in), A6 Dp1 (in), A7 Dn1 (in), A8 SBU1 (in), A9 Vbus (in), A10 SSRXn2 (in), A11 SSRXp2 (in), A12 GND (in), B1 GND (in), B2 SSTXp2 (in), B3 SSTXn2 (in), B4 Vbus (in), B5 CC2 (in), B6 Dp2 (in), B7 Dn2 (in), B8 SBU2 (in), B9 Vbus (in), B10 SSRXn1 (in), B11 SSRXp1 (in), B12 GND (in), SHELL GND (in), SHELL GND (in)

## VL53L0X
designator TOF?  Supplier Part Number 1: 497-16538-2-ND
Supplier 1: Digi-Key
footprint VL53L0X (LIDAR)
pins: 1 AVDD, 2 GND, 3 GND, 4 GND, 5 XSHUT, 6 GND, 7 GPIO1, 8 DNC, 9 SDA, 10 SCL, 11 AVDD, 12 GND

## VOS615A-OPTO
designator U??, comment Optoisolator1  Supplier Part Number 1: VOS615A-3TTR-ND
4-Pin Phototransistor Optocoupler; Published: 24-Mar-1999; LatestRevisionDate: 04-Mar-2005; LatestRevisionNote: Sch pins 3 & 4 Swapped.; DatasheetVersion: Nov-2003; PackageReference: DIP-4; Publisher: Altium Limited; Supplier 1: Digi-Key
footprint VOS615A (opto)
pins: 1 A "Anode", 2 K "Cathode", 3 E "Emitter", 4 C "Collector"

## WSLP20101L000FEK
designator R?, comment Current sense resistor  (value not drawn)
2W, 0.001R 5025 current sense resistor; Supplier 1: Digi-Key; Supplier Part Number 1: CSNL2010FT1L00CT-ND
footprint 4RESC5125X09N (Chip Resistor, 2-Leads + Kelvin terminals, Body 5.1x2.5mm, IPC Medium Density)
footprint 4RESC5125X09N (Chip Resistor, 2-Leads + Kelvin terminals, Body 5.1x2.5mm, IPC Medium Density)
pins: 1, 2, S1, S2